# Altium schematic symbol library Sensorheader.SchLib: 1 symbol
Pins are listed as number, name and electrical type; pins without a type are passive.

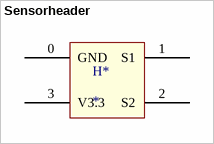
[diagram p0: symbol Sensorheader]

## Sensorheader
designator H*
footprint Sensorheader
pins: 0 GND (power), 1 S1, 2 S2, 3 V3.3